# EAGLE library part TPS7A45XX (library sot223-5)
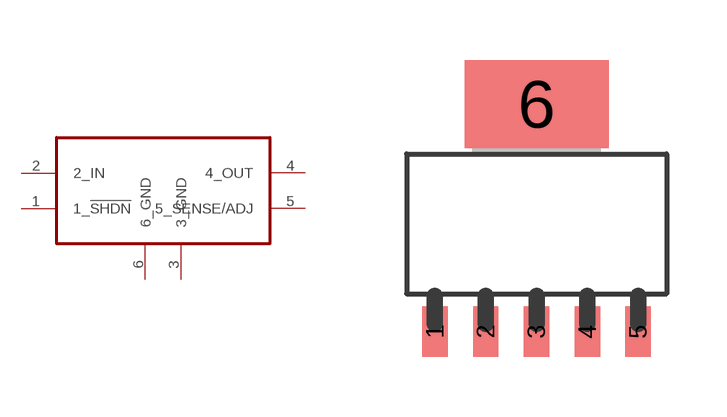
[diagram p0: symbol with the pads of SOT223-5; footprint SOT223-5]

Designator prefix -

## TPS7A45XX  [SOT223-5]
1  1_!SHDN  in
2  2_IN  in
3  3_GND  pwr
4  4_OUT  out
5  5_SENSE/ADJ  in
6  6_GND  pwr

## Footprint SOT223-5 (pad centres in mm)
smd 0.635 x 1.27: 1 -2.54,-2.7; 2 -1.27,-2.7; 3 0,-2.7; 4 1.27,-2.7; 5 2.54,-2.7
smd 3.6 x 2.2: 6 0,3